# EAGLE library part NRF24L01_ARD_WIRELESS (library Moduly)
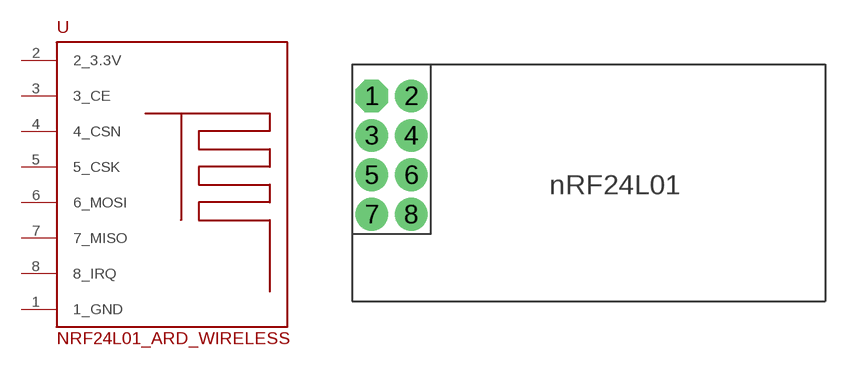
[diagram p1: symbol with the pads of NRF24L01_P; footprint NRF24L01_P]

Designator prefix -

## NRF24L01_ARD_WIRELESS  [NRF24L01_P]
1  1_GND
2  2_3.3V
3  3_CE
4  4_CSN
5  5_CSK
6  6_MOSI
7  7_MISO
8  8_IRQ

## Footprint NRF24L01_P (pad centres in mm)
drill 0.8 pad 2.1 octagon: 1 0,0
drill 0.8 pad 2.1: 2 2.54,0; 3 0,-2.54; 4 2.54,-2.54; 5 0,-5.08; 6 2.54,-5.08; 7 0,-7.62; 8 2.54,-7.62